# Altium schematic symbol library Common_Mode_Filter.SchLib: 2 symbols
Pins are listed as number, name and electrical type; pins without a type are passive.

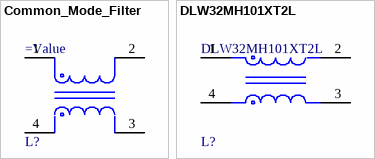
[diagram p0: symbols Common_Mode_Filter to DLW32MH101XT2L]

## Common_Mode_Filter
designator L?
Common Mode Choke, 2020, 1400Ω @ 100MHz, 0.056Ω, 1.5A
pins: 1, 2, 3, 4

## DLW32MH101XT2L
designator L?
Chip Common Mode Choke Coils Wire Wound Type 1210 Package Magnetically Shielded One Circuit Type (Transfer mode conversion characteristics improved) 80uH @ 100mV +50/-25% 50V 100mA 3.12ohm
pins: 1, 2, 3, 4